# Altium schematic symbol library E2S_E2S_031.SchLib: 1 symbol
Pins are listed as number, name and electrical type; pins without a type are passive.

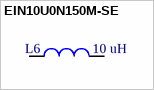
[diagram p0: symbol EIN10U0N150M-SE]

## EIN10U0N150M-SE
designator L6, comment value 10 uH  (hidden comment: FIXED IND 10UH 300MA 600 MOHM)
Manufacturer Part Number: LB2012T1R0M; Manufacturer: Taiyo Yuden; Internal Part Number: EIN10U0N150M-SE; Vendor Part Number: 587-2489-1-ND; 3rd Auxiliary Field: RoHS Compliant; Component Height (mm): 1.45mm; Temp Co: -40°C ~ 105°C; Vendor Name: Digikey; 2nd Auxiliary Field: 150mOhm; 1st Auxiliary Field: 405mA; Part Type: FIXED IND 1UH 405MA 150 MOHM SMD; 4th Auxiliary Field: *
footprint SMDL0805 (BLM21PG331SN1D, FERRITE CHIP 330 OHM 0805)
pins: 1, 2